# EAGLE library part JTAG_HEADER (library toyotune)
PIN HEADER
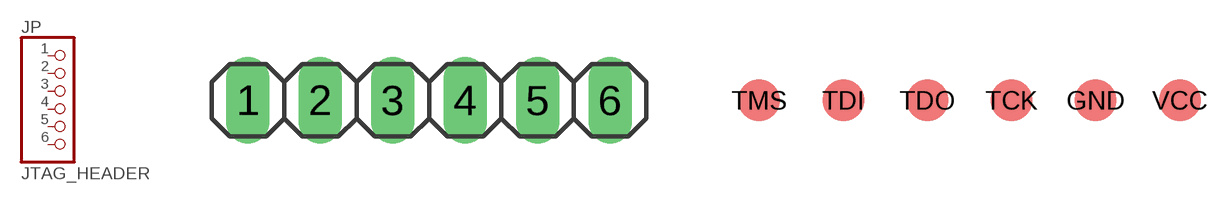
[diagram p5: symbol with the pads of 1X06; footprints 1X06, 1X06_SMD]

Designator prefix JP

## JTAG_HEADER  [1X06]
1  1  pas
2  2  pas
3  3  pas
4  4  pas
5  5  pas
6  6  pas

## JTAG_HEADERS  [1X06_SMD]
GND  5  pas
TCK  4  pas
TDI  2  pas
TDO  3  pas
TMS  1  pas
VCC  6  pas

## Footprint 1X06 (pad centres in mm)
PIN HEADER
drill 1.016 long: 1 -6.35,0; 2 -3.81,0; 3 -1.27,0; 4 1.27,0; 5 3.81,0; 6 6.35,0

## Footprint 1X06_SMD (pad centres in mm)
smd 1.27 x 1.27: GND 3.81,0; TCK 1.27,0; TDI -3.81,0; TDO -1.27,0; TMS -6.35,0; VCC 6.35,0